# Altium footprint library CHIP_1506.PcbLib: 1 footprints
Each footprint in its own frame and in the unit in brackets; x right, y up, seen from the top. Pads: shape width x height; smd on the part's side, far side on the other; paste and mask are expansions set on the pad; w line width, h text height; cw(c..) or ccw(c..) is an arc to the next point about the centre after c.
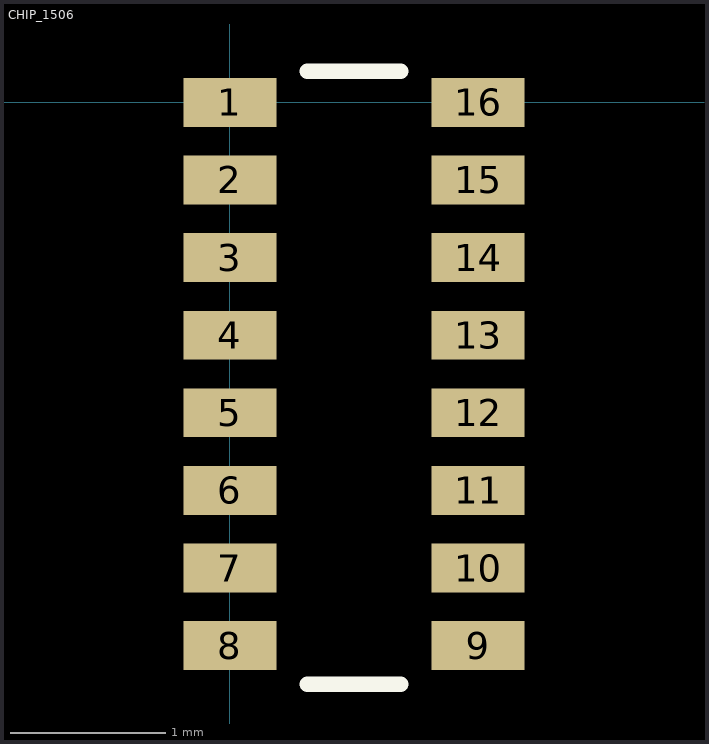
[diagram p0: the footprint, top view; thin cyan lines are the x and y axes]

## CHIP_1506 [mm]
pads (16):
  rect 0.6x0.315 smd mask+0.045: 1(0,0) 2(0,-0.5) 3(0,-1) 4(0,-1.5) 5(0,-2) 6(0,-2.5) 7(0,-3) 8(0,-3.5) 9(1.6,-3.5) 10(1.6,-3) 11(1.6,-2.5) 12(1.6,-2) 13(1.6,-1.5) 14(1.6,-1) 15(1.6,-0.5) 16(1.6,0)
Top Overlay:
  lines w0.1: 0.5,-3.75 1.1,-3.75 ; 0.5,0.2 1.1,0.2
3D body: height 0.45, standoff 0, extent 0,-3.65 1.6,0.15